# Altium footprint library SRP6540-6R8M.PcbLib: 3 footprints
Each footprint in its own frame and in the unit in brackets; x right, y up, seen from the top. Pads: shape width x height; smd on the part's side, far side on the other; paste and mask are expansions set on the pad; w line width, h text height; cw(c..) or ccw(c..) is an arc to the next point about the centre after c.
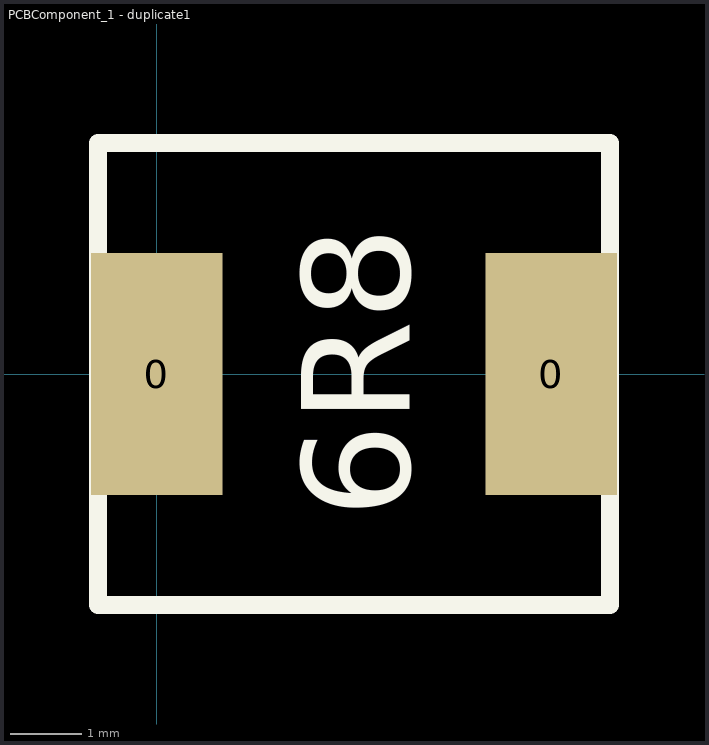
[diagram p0: the footprints below, top view; thin cyan lines are the x and y axes]

## PCBComponent_1 [mm]

## PCBComponent_1 - duplicate [mm]

## PCBComponent_1 - duplicate1 [mm]
pads (2):
  rect 1.85x3.4 smd: 0(0,0) 0(5.55,0)
Top Overlay:
  lines w0.254: -0.825,-3.25 -0.825,3.25 6.375,3.25 6.375,-3.25 -0.825,-3.25
  text "6R8" at 3.556,-2.032 h1.52